# Altium schematic symbol library GRM1885C1H103JA01D.SchLib: 1 symbol
Pins are listed as number, name and electrical type; pins without a type are passive.

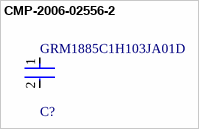
[diagram p0: symbol CMP-2006-02556-2]

## CMP-2006-02556-2
designator C?, comment GRM1885C1H103JA01D
Chip Multilayer Ceramic Capacitors for General Purpose, 0603, 10000pF, C0G, 30ppm/°C, 5%, 50V; Capacitance: 10nF; Voltage Rating: 50V; Height: 0.8mm; Thickness: 0.035inch; Termination: SMD/SMT; Width: 0.8mm; Case/Package: 0603; Package Quantity: 4000; Max Operating Temperature: 125°C; Voltage Rating (DC): 50V; Lead Free: Lead Free; Mount: Surface Mount; Depth: 0.8mm; REACH SVHC: No SVHC; Voltage: 50V; Material: Ceramic; Tolerance: 5%; Case Code (Metric): 1608; Dielectric: C0G; Case Code (Imperial): 0603; Lead Pitch: 0.5mm; Length: 1.6mm; Min Operating Temperature: -55°C; Packaging: Tape and Reel
footprint FP-GRM188-0_1-e0_2_0_5-IPC_A
footprint FP-GRM188-0_1-e0_2_0_5-IPC_B
footprint FP-GRM188-0_1-e0_2_0_5-MFG
footprint FP-GRM188-0_1-e0_2_0_5-IPC_C
pins: 1, 2